# EAGLE library part 1040310811 (library KVB-connectors)
microSD Connector Surface Mount, Right Angle Gold
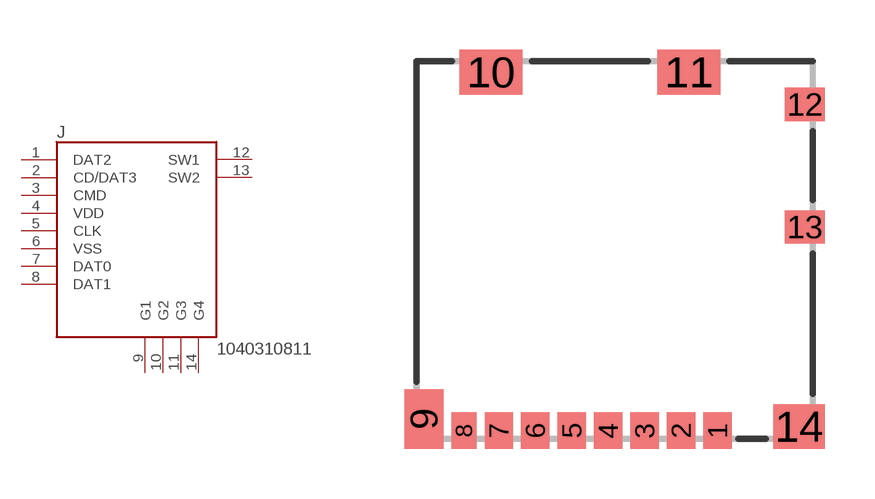
[diagram p9: symbol with the pads of 1040310811; footprint 1040310811]

Designator prefix J

## 1040310811 (MAN-PART_NUM: 1040310811; MANUFACTURER: Molex)  [1040310811]
1  DAT2
2  CD/DAT3
3  CMD
4  VDD
5  CLK
6  VSS
7  DAT0
8  DAT1
9  G1
10  G2
11  G3
12  SW1
13  SW2
14  G4

## Footprint 1040310811 (pad centres in mm)
smd 0.85 x 1.1: 1 3.225,0.17; 2 2.125,0.17; 3 1.025,0.17; 4 -0.075,0.17; 5 -1.175,0.17; 6 -2.275,0.17; 7 -3.375,0.17
smd 0.75 x 1.1: 8 -4.425,0.17
smd 1.17 x 1.8: 9 -5.635,0.52
smd 1.9 x 1.35: 10 -3.61,10.995; 11 2.36,10.995
smd 1.2 x 1: 12 5.86,10.02; 13 5.86,6.32
smd 1.55 x 1.35: 14 5.685,0.295